# Altium schematic symbol library Flyback.SCHLIB: 1 symbol
Pins are listed as number, name and electrical type; pins without a type are passive.

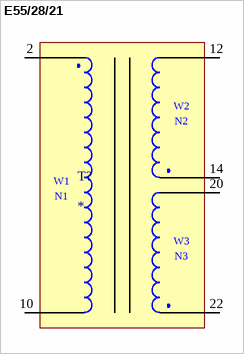
[diagram p0: symbol E55/28/21]

## E55/28/21
designator T?
Transistor E55/28/21
footprint E55/28/21 (Transistor Coil E55/28/21)
pins: 2, 10, 12, 14, 20, 22
text: W2; N2; W1; N1; W3; N3